# EAGLE library part LCD_MC21605C6W-BNMLW-V2 (library custom)
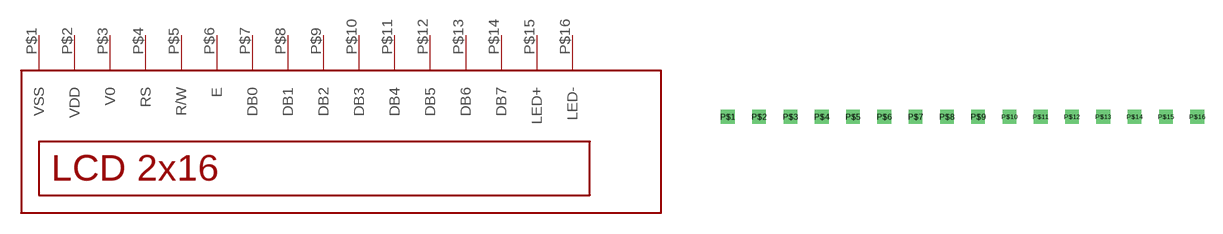
[diagram p1: symbol with the pads of LCD_MC21605C6W-BNMLW-V2; footprint LCD_MC21605C6W-BNMLW-V2]

Designator prefix -

## LCD_MC21605C6W-BNMLW-V2  [LCD_MC21605C6W-BNMLW-V2]
P$1  VSS
P$2  VDD
P$3  V0
P$4  RS
P$5  R/W
P$6  E
P$7  DB0
P$8  DB1
P$9  DB2
P$10  DB3
P$11  DB4
P$12  DB5
P$13  DB6
P$14  DB7
P$15  LED+
P$16  LED-

## Footprint LCD_MC21605C6W-BNMLW-V2 (pad centres in mm)
drill 0.6 square: P$1 -25.4,0; P$2 -22.86,0; P$3 -20.32,0; P$4 -17.78,0; P$5 -15.24,0; P$6 -12.7,0; P$7 -10.16,0; P$8 -7.62,0; P$9 -5.08,0; P$10 -2.54,0; P$11 0,0; P$12 2.54,0; P$13 5.08,0; P$14 7.62,0; P$15 10.16,0; P$16 12.7,0